# Altium footprint library variable_resistors.PcbLib: 1 footprints
Each footprint in its own frame and in the unit in brackets; x right, y up, seen from the top. Pads: shape width x height; smd on the part's side, far side on the other; paste and mask are expansions set on the pad; w line width, h text height; cw(c..) or ccw(c..) is an arc to the next point about the centre after c.
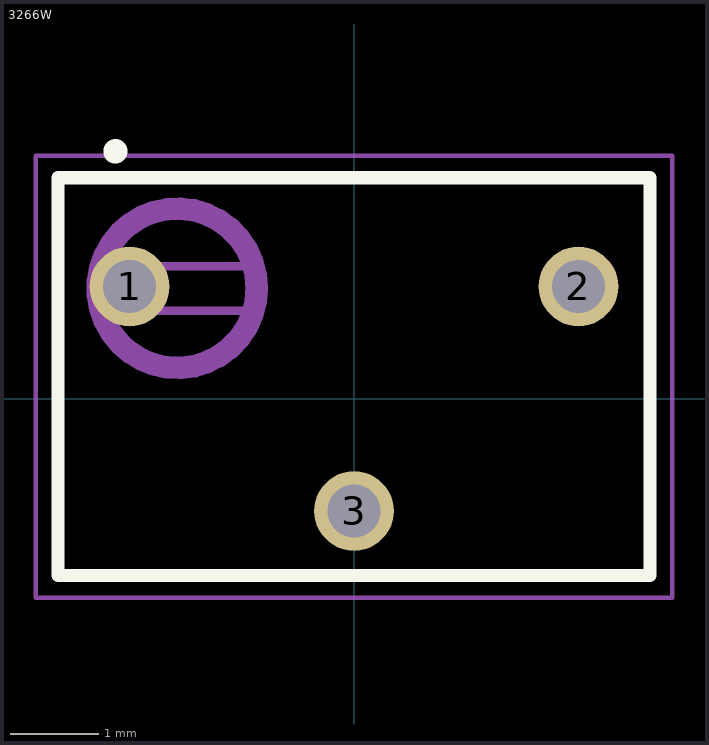
[diagram p0: the footprint, top view; thin cyan lines are the x and y axes]

## 3266W [mm]
pads (3):
  round 0.9 hole 0.6: 1(-2.54,1.27) 2(2.54,1.27) 3(0,-1.27)
Top Overlay:
  circle w0.254: c-2.7,2.8 r0.01
  lines w0.15: -3.35,-2 3.35,-2 3.35,2.5 -3.35,2.5 -3.35,-2
Top Assembly:
  circle w0.254: c-2,1.25 r0.901
  lines w0.1: -2.75,1 -1.146,0.996 ; -2.75,1.5 -1.146,1.504 ; -3.35,-2 3.35,-2 3.35,2.5 -3.35,2.5 -3.35,-2
  text ".Designator" at -4.998,-0.333 h1
Top Courtyard (Mech15):
  lines w0.05: -3.6,-2.25 3.6,-2.25 3.6,2.75 -3.6,2.75 -3.6,-2.25
3D body: height 7.24, standoff 0, extent -3.35,-2 3.35,2.5